# EAGLE library part BTS722204ESAXUMA1 (library BTS722204ESAXUMA1)
Power Switch ICs - Power Distribution SPOC Source: Datasheet <https://www.infineon.com/dgdl/Infineon-BTS72220-4ESA-DS-v01_00-EN.pdf?fileId=5546d462636cc8fb0163feab173708d9>
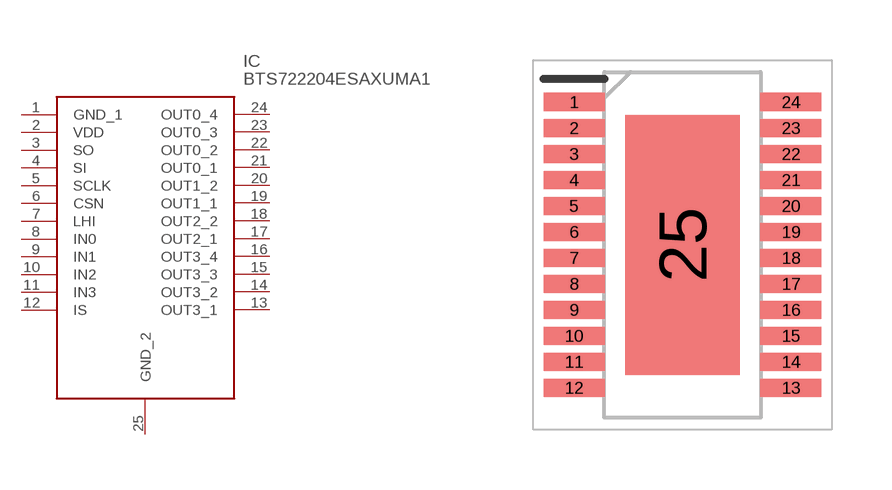
[diagram p0: symbol with the pads of SOP65P600X115-25N; footprint SOP65P600X115-25N]

Designator prefix IC

## BTS722204ESAXUMA1 (Description: Power Switch ICs - Power Distribution SPOC; Height: 1.15mm; Manufacturer_Name: Infineon; Manufacturer_Part_Number: BTS722204ESAXUMA1; Mouser_Part_Number: 726-BTS722204ESAXUMA; Mouser_Price-Stock: https://www.mouser.co.uk/ProductDetail/Infineon-Technologies/BTS722204ESAXUMA1?qs=%252BEew9%252B0nqrBKRVYWm1E2Qg%3D%3D)  [SOP65P600X115-25N]
1  GND_1
2  VDD
3  SO
4  SI
5  SCLK
6  CSN
7  LHI
8  IN0
9  IN1
10  IN2
11  IN3
12  IS
13  OUT3_1
14  OUT3_2
15  OUT3_3
16  OUT3_4
17  OUT2_1
18  OUT2_2
19  OUT1_1
20  OUT1_2
21  OUT0_1
22  OUT0_2
23  OUT0_3
24  OUT0_4
25  GND_2

## Footprint SOP65P600X115-25N (pad centres in mm)
BTS722204ESAXUMA1
smd 1.525 x 0.45: 1 -2.712,3.575; 2 -2.712,2.925; 3 -2.712,2.275; 4 -2.712,1.625; 5 -2.712,0.975; 6 -2.712,0.325; 7 -2.712,-0.325; 8 -2.712,-0.975; 9 -2.712,-1.625; 10 -2.712,-2.275; 11 -2.712,-2.925; 12 -2.712,-3.575; 13 2.712,-3.575; 14 2.712,-2.925; 15 2.712,-2.275; 16 2.712,-1.625; 17 2.712,-0.975; 18 2.712,-0.325; 19 2.712,0.325; 20 2.712,0.975; 21 2.712,1.625; 22 2.712,2.275; 23 2.712,2.925; 24 2.712,3.575
smd 2.87 x 6.5: 25 0,0